# Altium footprint library PcbLib1.PcbLib: 35 footprints (part 1 of 3)
Each footprint in its own frame and in the unit in brackets; x right, y up, seen from the top. Pads: shape width x height; smd on the part's side, far side on the other; paste and mask are expansions set on the pad; w line width, h text height; cw(c..) or ccw(c..) is an arc to the next point about the centre after c.
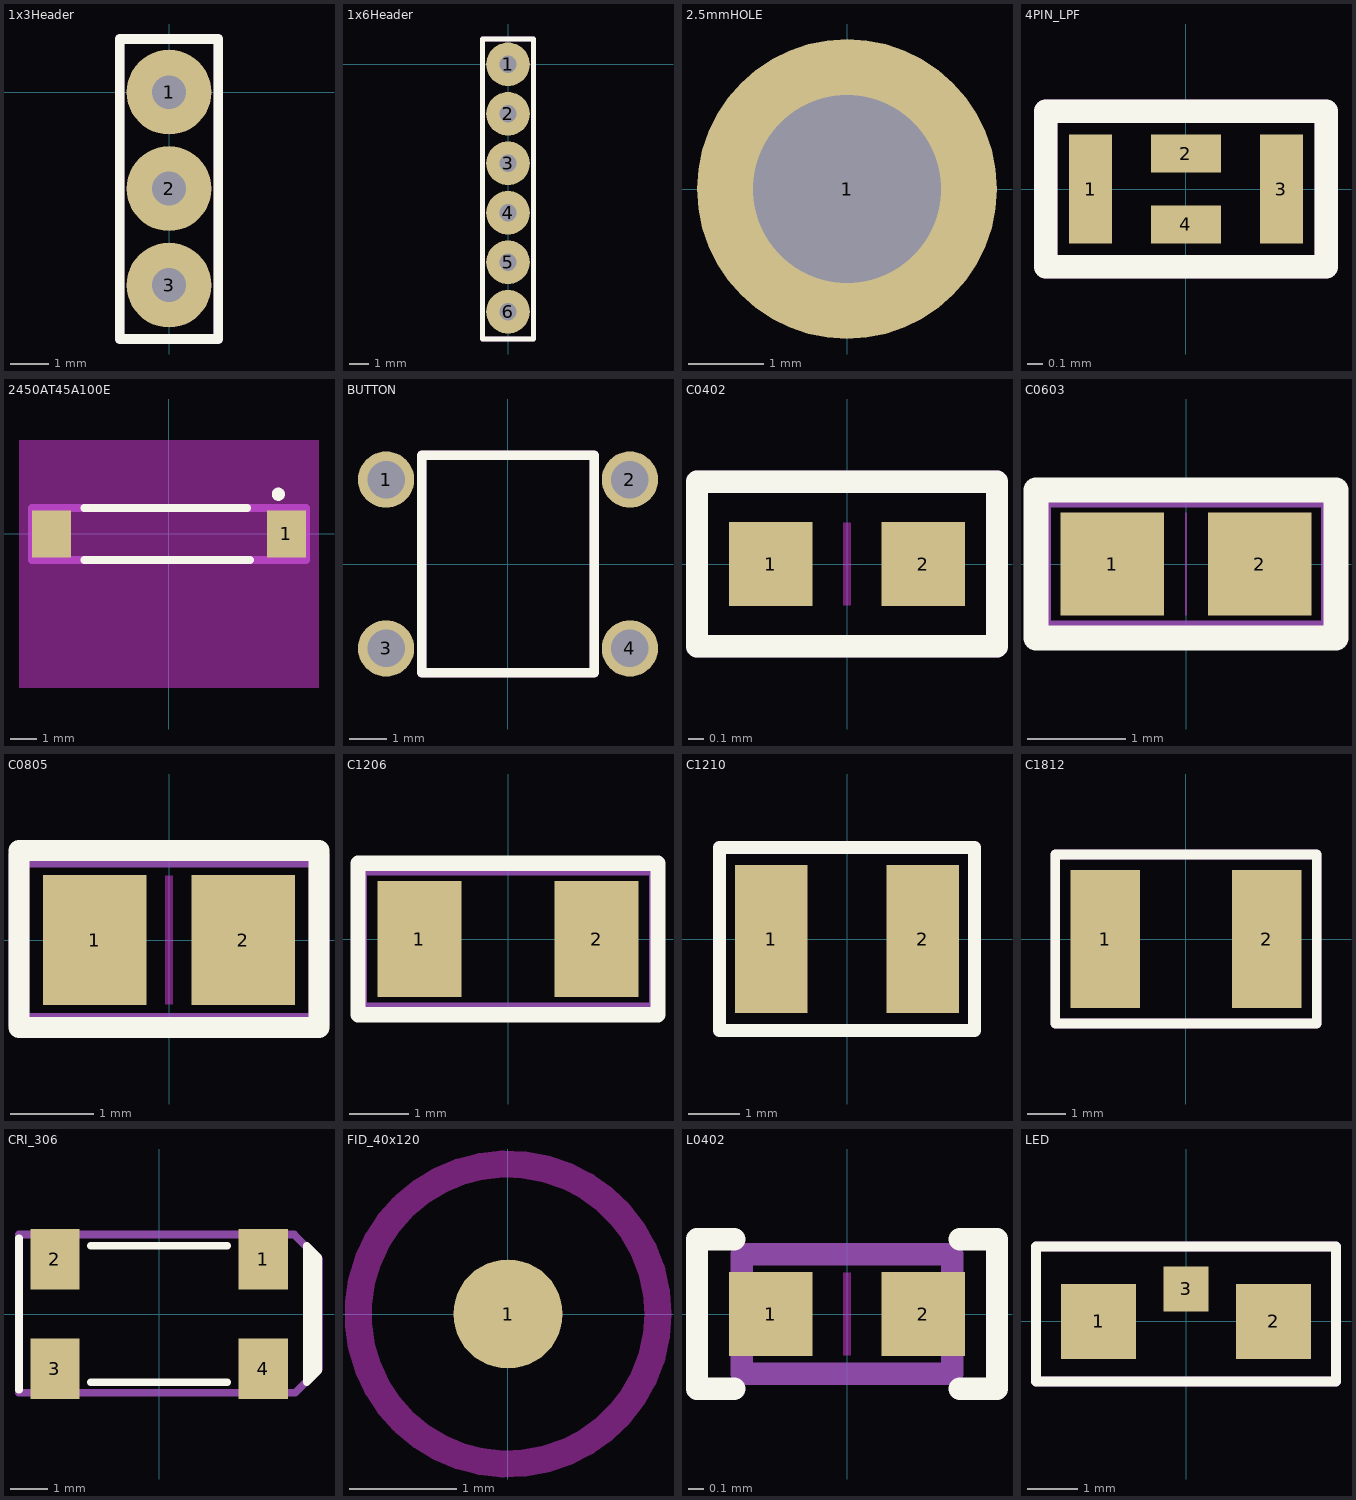
[diagram p0: the footprints below, top view; thin cyan lines are the x and y axes]

## 1x3Header [mil]
pads (3):
  round 88 hole 35: 1(0,0) 2(0,-100) 3(0,-200)
Top Overlay:
  lines w10: -51.18,-255.91 -51.18,55.12 51.18,55.12 51.18,-255.91 -51.18,-255.91
Mechanical 29:
  lines w10: -51.18,-255.91 -51.18,55.12 51.18,55.12 51.18,-255.91 -51.18,-255.91
  text "'.Designator'" at -59.06,-255.91 h27.56

## 1x6Header [mil]
pads (6):
  round 88 hole 35: 1(0,0) 2(0,-100) 3(0,-200) 4(0,-300) 5(0,-400) 6(0,-500)
Top Overlay:
  lines w10: -51.18,-555.12 51.18,-555.12 51.18,51.18 -51.18,51.18 -51.18,-555.12
Mechanical 29:
  lines w10: -51.18,-555.12 51.18,-555.12 51.18,51.18 -51.18,51.18 -51.18,-555.12
  text "'.Designator'" at -59.06,-531.5 h27.56
3D body "90147-1306.stp": height 335.15, standoff -113.67, extent -50,-555.12 50,44.88

## 2.5mmHOLE [mm]
pads (1):
  round 4 hole 2.5: 1(0,0)

## 4PIN_LPF [mm]
pads (4):
  rect 0.275x0.7 smd mask+0.05: 1(-0.612,0) 3(0.613,0)
  rect 0.45x0.245 smd mask+0.05: 2(0,0.228) 4(0,-0.228)
Top Overlay:
  lines w0.15: -0.9,-0.5 0.9,-0.5 0.9,0.5 -0.9,0.5 -0.9,-0.5
Mechanical 29:
  lines w0.15: -0.9,-0.5 0.9,-0.5 0.9,0.5 -0.9,0.5 -0.9,-0.5
  text "'.Designator'" at -0.65,-0.375 h0.7
3D body "DLF162500LT-5028A1.stp": height 0.26, standoff 0, extent -0.833,-0.39 0.819,0.448

## 2450AT45A100E [mm]
pads (2):
  rect 1.5x1.8 smd: 1(4.5,0) ""(-4.5,0)
Top Overlay:
  circle w0.3: c4.191,1.524 r0.1
  lines w0.3: -3.25,-1 3.1,-1 ; -3.25,1 3,1
Keep-Out Layer:
  region: 5.75,-5.9 5.75,3.6 -5.75,3.6 -5.75,-5.9
Mechanical 29:
  circle w0.4: c4.699,0.381 r0.1
  lines w0.3: -5.25,-1 -5.25,1 5.25,1 5.25,-1 -5.25,-1
  text "'.Designator'" at -4.05,-0.4 h0.85
3D body "2450AT45A100.step": height 1.22, standoff 0.01, extent -4.75,-1.016 4.75,0.984

## BUTTON [mm]
pads (4):
  round 1.5 hole 1: 1(-3.25,2.25) 2(3.25,2.25) 3(-3.25,-2.25) 4(3.25,-2.25)
Top Overlay:
  lines w0.254: -2.3,-2.9 -2.3,2.9 2.3,2.9 2.3,-2.9 -2.3,-2.9
Mechanical 29:
  lines w0.254: -2.3,-2.9 -2.3,2.9 2.3,2.9 2.3,-2.9 -2.3,-2.9
  text "'.Designator'" at -3.6,-0.5 h0.7
3D body "TS02-66-130-BK-260-LCR-D.stp": height 13, standoff -3.48, extent -3.95,-3 3.95,3

## C0402 [mil]
pads (2):
  rect 22x22 smd: 1(-20,0) 2(20,0)
Top Layer keep-out:
  rectangle: -0.98,-10.83 0.98,10.83
Top Overlay:
  lines w5.91: -39.37,-21.65 39.37,-21.65 39.37,21.65 -39.37,21.65 -39.37,-21.65
Mechanical 29:
  lines w5.91: -39.37,-21.65 39.37,-21.65 39.37,21.65 -39.37,21.65 -39.37,-21.65
  text "'.Designator'" at -25.59,-14.76 h27.56
3D body "Capacitor0402.stp": height 22.16, standoff 0.5, extent -20.67,-10.83 20.67,10.83

## C0603 [mm]
pads (2):
  rect 1.05x1.05 smd: 1(-0.75,0) 2(0.75,0)
Top Layer keep-out:
  rectangle: -0.01,-0.525 0.01,0.525
Top Overlay:
  lines w0.254: -1.525,-0.75 1.525,-0.75 1.525,0.75 -1.525,0.75 -1.525,-0.75
Mechanical 29:
  lines w0.254: -1.5,-0.7 -1.5,0.7 1.5,0.7 1.5,-0.7 -1.5,-0.7
  text "'.Designator'" at -0.925,-0.45 h0.8
3D body "Capacitor0603.stp": height 0.88, standoff 0.01, extent -0.875,-0.475 0.875,0.475

## C0805 [mm]
pads (2):
  rect 1.24x1.56 smd: 1(-0.89,0) 2(0.89,0)
Top Layer keep-out:
  rectangle: -0.05,-0.775 0.05,0.775
Top Overlay:
  lines w0.254: -1.8,-1.05 1.8,-1.05 1.8,1.075 -1.8,1.075 -1.8,-1.05
Mechanical 29:
  lines w0.254: -1.8,-1 -1.8,1 1.8,1 1.8,-1 -1.8,-1
  text "'.Designator'" at -1.175,-0.7 h1.3
3D body "Capacitor0805.stp": height 0.89, standoff 0.01, extent -1.1,-0.725 1.1,0.725

## C1206 [mm]
pads (2):
  rect 1.42x1.96 smd: 1(-1.49,0) 2(1.49,0)
Top Overlay:
  lines w0.254: -2.525,-1.275 -2.525,1.275 2.525,1.275 2.525,-1.275 -2.525,-1.275
Mechanical 29:
  lines w0.254: -2.5,-1.2 -2.5,1.2 2.5,1.2 2.5,-1.2 -2.5,-1.2
  text "'.Designator'" at -1.45,-0.875 h1.52
3D body "Capacitor1206.stp": height 0.89, standoff 0.01, extent -1.7,-0.9 1.7,0.9

## C1210 [mm]
pads (2):
  rect 1.42x2.91 smd: 1(-1.49,0) 2(1.49,0)
Top Overlay:
  lines w0.254: -2.5,-1.8 2.5,-1.8 2.5,1.8 -2.5,1.8 -2.5,-1.8
Mechanical 29:
  lines w0.254: -2.5,-1.8 -2.5,1.8 2.5,1.8 2.5,-1.8 -2.5,-1.8
  text "'.Designator'" at -2.1,-0.8 h1.52
3D body "Capacitor1210.stp": height 2.11, standoff 0.01, extent -1.7,-1.35 1.7,1.35

## C1812 [mm]
pads (2):
  rect 1.8x3.6 smd: 1(-2.1,0) 2(2.1,0)
Top Overlay:
  lines w0.254: -3.4,-2.2 3.4,-2.2 3.4,2.2 -3.4,2.2 -3.4,0.34 -3.4,-2.2
Mechanical 29:
  lines w0.254: -3.4,-2.2 3.4,-2.2 3.4,2.2 -3.4,2.2 -3.4,-2.2
  text "'.Designator'" at -1.725,-0.575 h1.5
3D body "Capacitor1812.stp": height 1.86, standoff 0.01, extent -2.45,-1.75 2.45,1.75

## CRI_306 [mm]
pads (4):
  rect 1.3x1.6 smd: 1(2.75,1.45) 2(-2.75,1.45) 3(-2.75,-1.45) 4(2.75,-1.45)
Top Overlay:
  lines w0.2: -3.7,-2 -3.7,2 ; -1.8,-1.8 1.8,-1.8 ; -1.8,1.8 1.8,1.8 ; 4.025,-1.6 4.025,1.575 ; 3.9,-1.8 3.9,1.8 4.2,1.5 4.2,-1.5 3.9,-1.8
Mechanical 29:
  lines w0.2: -3.7,-2.075 3.6,-2.075 4.225,-1.45 4.225,1.45 3.575,2.1 -3.7,2.1 -3.7,-2.075
  text "'.Designator'" at -1.6,-0.25 h0.7
3D body "CRI_CM250c.step": height 2.5, standoff 0.01, extent -3.825,-1.85 4.075,1.85

## FID_40x120 [mil]
pads (1):
  round 40 smd paste-40 mask+40: 1(0,0)
Top Layer keep-out:
  circle w10: c0,0 r55.04

## L0402 [mil]
pads (2):
  rect 22x22 smd: 1(-20,0) 2(20,0)
Top Layer keep-out:
  rectangle: -0.98,-10.83 0.98,10.83
Top Overlay:
  lines w5.91: -29.53,-19.68 -39.37,-19.68 -39.37,19.68 -29.53,19.68 ; 29.53,-19.68 39.37,-19.68 39.37,19.68 29.53,19.68
Mechanical 29:
  lines w5.91: -27.56,-15.75 27.56,-15.75 27.56,15.75 -27.56,15.75 -27.56,-15.75
  text "'.Designator'" at -23.62,-7.87 h19.68
3D body "LQG15HS2N7S02D.STEP": height 20.18, standoff 0.5, extent -19.68,-10.83 19.68,10.83

## LED [mm]
pads (3):
  rect 1.5x1.5 smd: 1(-1.75,0) 2(1.75,0)
  rect 0.9x0.9 smd: 3(0,0.65)
Top Overlay:
  lines w0.2: -3,-1.2 3,-1.2 3,1.5 -3,1.5 -3,-1.2
Mechanical 29:
  lines w0.2: -3,-1.2 3,-1.2 3,1.5 -3,1.5 -3,-1.2
  text "'.Designator'" at -3.4,1.8 h0.7
3D body: height 1, standoff 0, extent -1.5,-0.5 1.5,0.5
3D body: height 1, standoff 0, extent -1,-1.508 1,-0.492